# EAGLE library part DRV8704 (library RoboJackets-PowerICs)
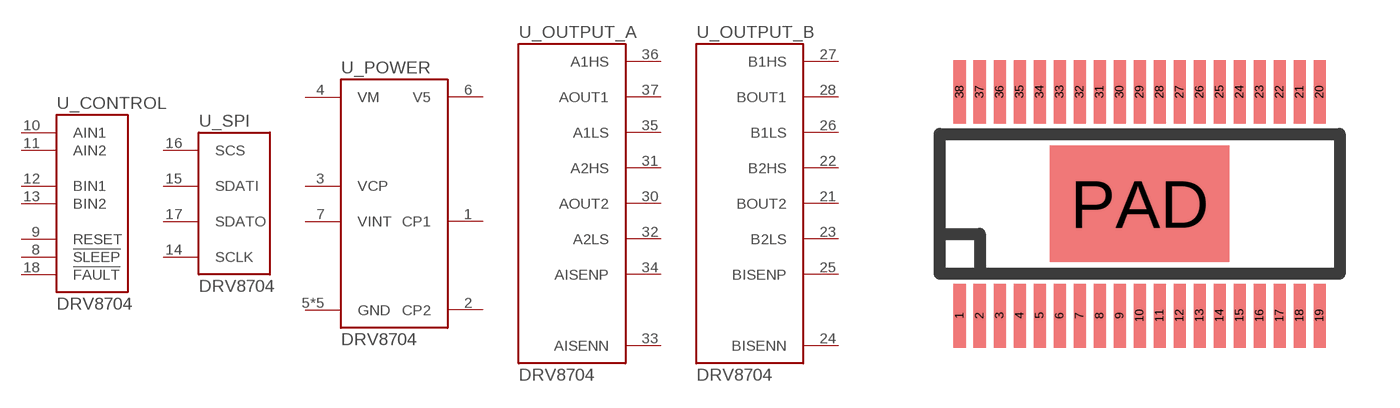
[diagram p12: symbol with the pads of HTSSOP-38; footprint HTSSOP-38]

Designator prefix U; gates _CONTROL=DRV8704_CONTROL _OUTPUT_A=DRV8704_OUTPUT_A _OUTPUT_B=DRV8704_OUTPUT_B _POWER=DRV8704_POWER _SPI=DRV8704_SPI

## DRV8704  [HTSSOP-38]
1  _POWER:CP1
2  _POWER:CP2
3  _POWER:VCP
4  _POWER:VM
5  _POWER:GND
6  _POWER:V5
7  _POWER:VINT
8  _CONTROL:!SLEEP
9  _CONTROL:RESET
10  _CONTROL:AIN1
11  _CONTROL:AIN2
12  _CONTROL:BIN1
13  _CONTROL:BIN2
14  _SPI:SCLK
15  _SPI:SDATI
16  _SPI:SCS
17  _SPI:SDATO
18  _CONTROL:!FAULT
19  _POWER:GND
21  _OUTPUT_B:BOUT2
22  _OUTPUT_B:B2HS
23  _OUTPUT_B:B2LS
24  _OUTPUT_B:BISENN
25  _OUTPUT_B:BISENP
26  _OUTPUT_B:B1LS
27  _OUTPUT_B:B1HS
28  _OUTPUT_B:BOUT1
29  _POWER:GND
30  _OUTPUT_A:AOUT2
31  _OUTPUT_A:A2HS
32  _OUTPUT_A:A2LS
33  _OUTPUT_A:AISENN
34  _OUTPUT_A:AISENP
35  _OUTPUT_A:A1LS
36  _OUTPUT_A:A1HS
37  _OUTPUT_A:AOUT1
38  _POWER:GND
PAD  _POWER:GND

## Footprint HTSSOP-38 (pad centres in mm)
smd 0.3 x 1.6: 1 -4.5,-2.8; 2 -4,-2.8; 3 -3.5,-2.8; 4 -3,-2.8; 5 -2.5,-2.8; 6 -2,-2.8; 7 -1.5,-2.8; 8 -1,-2.8; 9 -0.5,-2.8; 10 0,-2.8; 11 0.5,-2.8; 12 1,-2.8; 13 1.5,-2.8; 14 2,-2.8; 15 2.5,-2.8; 16 3,-2.8; 17 3.5,-2.8; 18 4,-2.8; 19 4.5,-2.8; 20 4.5,2.8; 21 4,2.8; 22 3.5,2.8; 23 3,2.8; 24 2.5,2.8; 25 2,2.8; 26 1.5,2.8; 27 1,2.8; 28 0.5,2.8; 29 0,2.8; 30 -0.5,2.8; 31 -1,2.8; 32 -1.5,2.8; 33 -2,2.8; 34 -2.5,2.8; 35 -3,2.8; 36 -3.5,2.8; 37 -4,2.8; 38 -4.5,2.8
smd 4.48 x 2.9: PAD 0,0